# EAGLE library part DSPIC30F2011 (library microchip-dspic)
dsPIC Sensor DSP
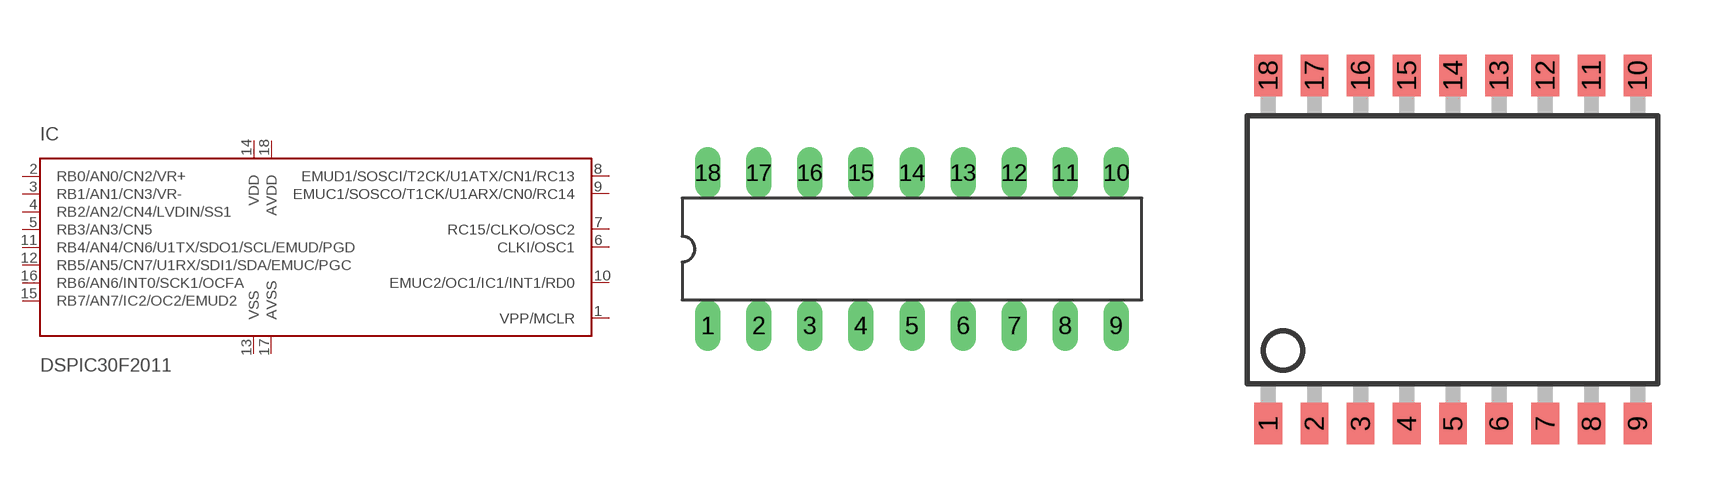
[diagram p17: symbol with the pads of DIL18; footprints DIL18, SO-18W]

Designator prefix IC

## DSPIC30F2011/P  [DIL18]
1  VPP/MCLR  in
2  RB0/AN0/CN2/VR+
3  RB1/AN1/CN3/VR-
4  RB2/AN2/CN4/LVDIN/SS1
5  RB3/AN3/CN5
6  CLKI/OSC1
7  RC15/CLKO/OSC2
8  EMUD1/SOSCI/T2CK/U1ATX/CN1/RC13
9  EMUC1/SOSCO/T1CK/U1ARX/CN0/RC14
10  EMUC2/OC1/IC1/INT1/RD0
11  RB4/AN4/CN6/U1TX/SDO1/SCL/EMUD/PGD
12  RB5/AN5/CN7/U1RX/SDI1/SDA/EMUC/PGC
13  VSS  pwr
14  VDD  pwr
15  RB7/AN7/IC2/OC2/EMUD2
16  RB6/AN6/INT0/SCK1/OCFA
17  AVSS  pwr
18  AVDD  pwr

## DSPIC30F2011/SO  [SO-18W]
Pads as for DIL18

## Footprint DIL18 (pad centres in mm)
Dual In Line package type P
drill 0.5 pad 1.27 long: 1 -10.16,-3.81; 2 -7.62,-3.81; 3 -5.08,-3.81; 4 -2.54,-3.81; 5 0,-3.81; 6 2.54,-3.81; 7 5.08,-3.81; 8 7.62,-3.81; 9 10.16,-3.81; 10 10.16,3.81; 11 7.62,3.81; 12 5.08,3.81; 13 2.54,3.81; 14 0,3.81; 15 -2.54,3.81; 16 -5.08,3.81; 17 -7.62,3.81; 18 -10.16,3.81

## Footprint SO-18W (pad centres in mm)
Small Outline Wide Plastic Gull Wing 300-mil body, package type SO
smd 0.762 x 1.143: 1 -5.08,-4.788; 2 -3.81,-4.788; 3 -2.54,-4.788; 4 -1.27,-4.788; 5 0,-4.788; 6 1.27,-4.788; 7 2.54,-4.788; 8 3.81,-4.788; 9 5.08,-4.788; 10 5.08,4.788; 11 3.81,4.788; 12 2.54,4.788; 13 1.27,4.788; 14 0,4.788; 15 -1.27,4.788; 16 -2.54,4.788; 17 -3.81,4.788; 18 -5.08,4.788